# Altium schematic symbol library EEPROM_25xx040A.SchLib: 1 symbol
Pins are listed as number, name and electrical type; pins without a type are passive.

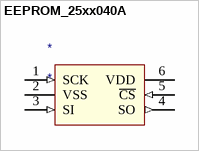
[diagram p0: symbol EEPROM_25xx040A]

## EEPROM_25xx040A
designator *
pins: 1 SCK (in), 2 VSS (power), 3 SI (in), 4 SO (out), 5 ~{CS} (in), 6 VDD (power)
1 alternate drawing of the same symbol